# EAGLE library part *556-ALT (library ne555-556)
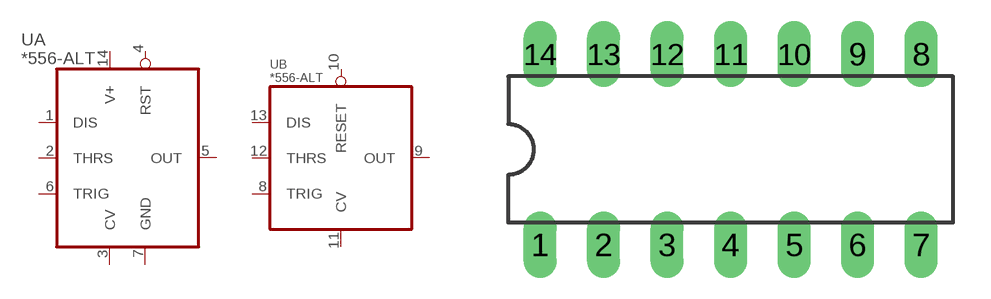
[diagram p2: symbol with the pads of DIL14; footprint DIL14]

Designator prefix -; gates A=555-ALT B=556-ALT

## 556-ALT-DIL14  [DIL14]
1  A:DIS  in
2  A:THRS  in
3  A:CV  in
4  A:RST  in
5  A:OUT  out
6  A:TRIG  in
7  A:GND  pwr
8  B:TRIG  in
9  B:OUT  out
10  B:RESET  in
11  B:CV  in
12  B:THRS  in
13  B:DIS  in
14  A:V+  pwr

## Footprint DIL14 (pad centres in mm)
Dual In Line Package
drill 0.813 long: 1 -7.62,-3.81; 2 -5.08,-3.81; 3 -2.54,-3.81; 4 0,-3.81; 5 2.54,-3.81; 6 5.08,-3.81; 7 7.62,-3.81; 8 7.62,3.81; 9 5.08,3.81; 10 2.54,3.81; 11 0,3.81; 12 -2.54,3.81; 13 -5.08,3.81; 14 -7.62,3.81